# Altium footprint library MEGA2560_Rev3e.PcbLib: 29 footprints (part 2 of 2)
Each footprint in its own frame and in the unit in brackets; x right, y up, seen from the top. Pads: shape width x height; smd on the part's side, far side on the other; paste and mask are expansions set on the pad; w line width, h text height; cw(c..) or ccw(c..) is an arc to the next point about the centre after c.
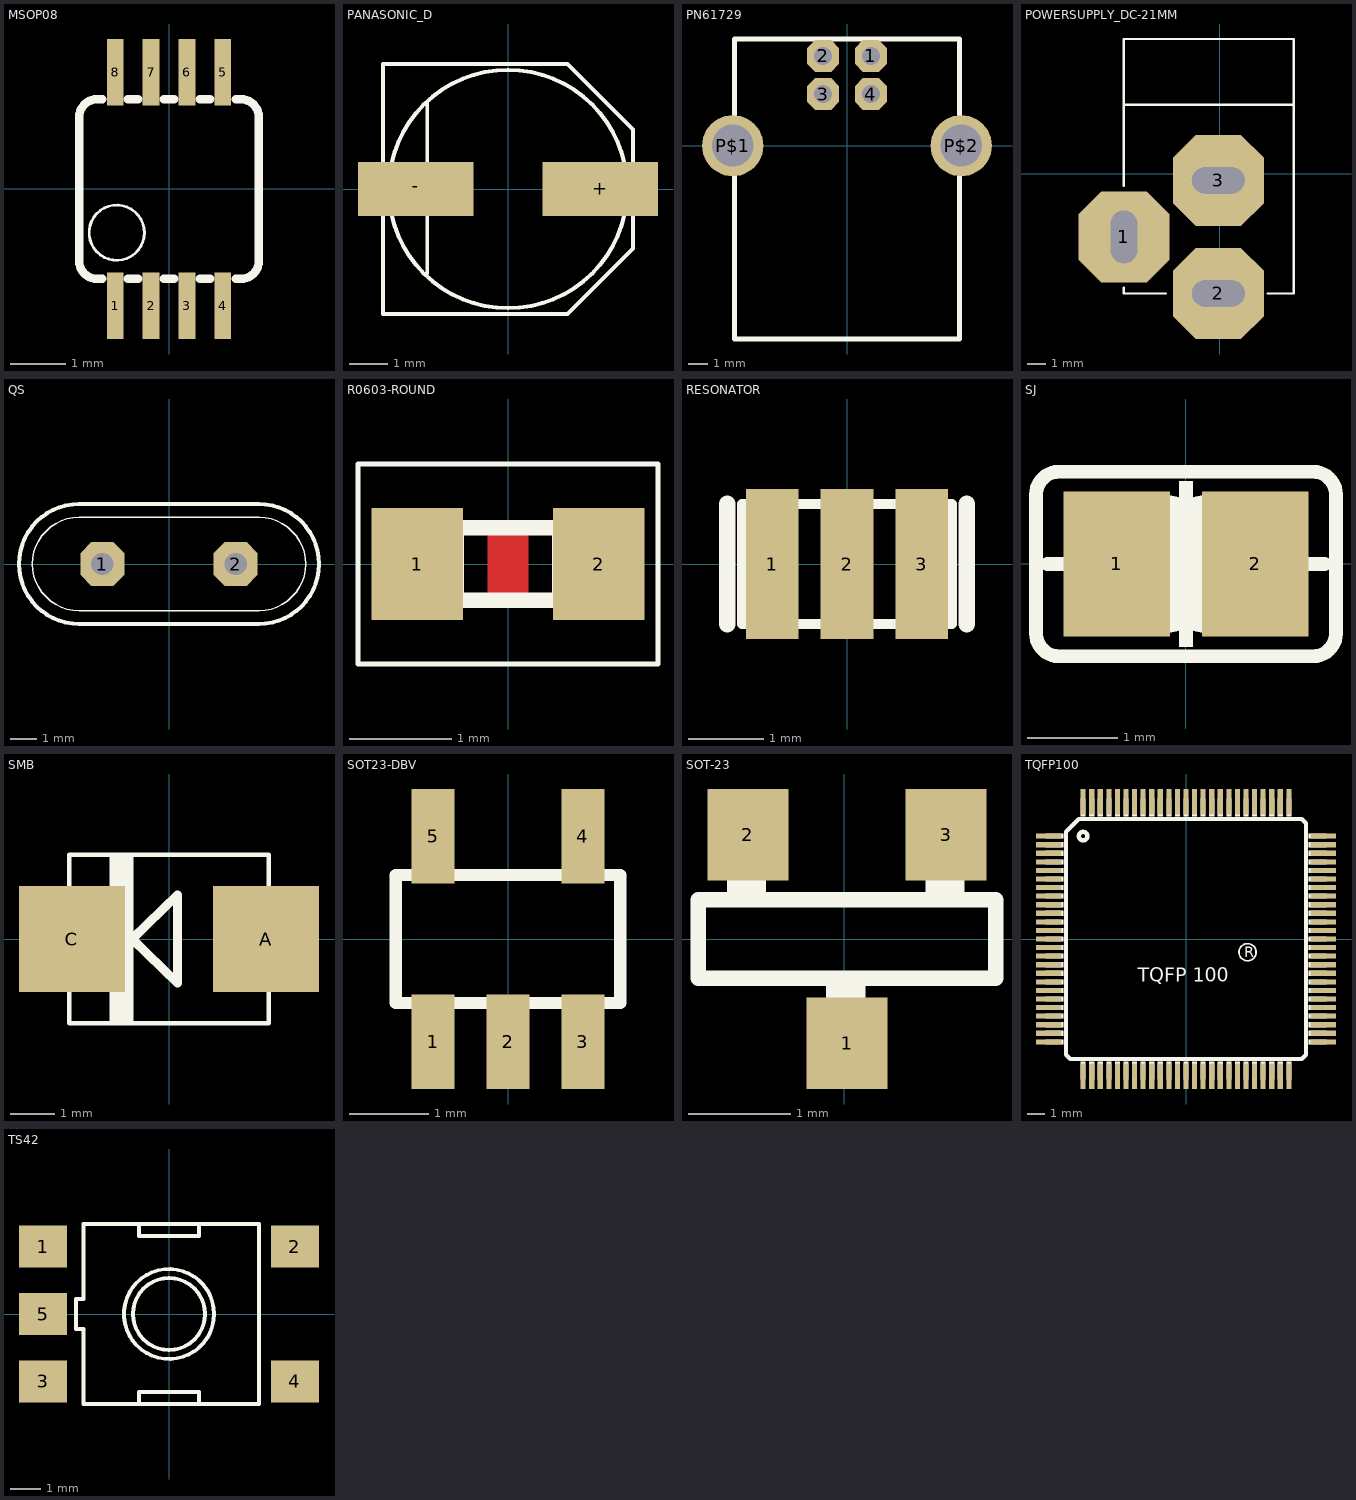
[diagram p1: the footprints below, top view; thin cyan lines are the x and y axes]

## MSOP08 [mm]
pads (8):
  rect 0.3x1.2 smd: 1(-0.976,-2.113) 2(-0.326,-2.113) 3(0.324,-2.113) 4(0.974,-2.113) 5(0.974,2.112) 6(0.324,2.112) 7(-0.326,2.112) 8(-0.976,2.112)
Top Overlay:
  circle w0.051: c-0.946,-0.791 r0.5
  rectangle: 0.853,-2.357 1.096,-1.626
  rectangle: 0.203,-2.357 0.446,-1.625
  rectangle: -0.447,-2.357 -0.204,-1.625
  rectangle: -1.098,-2.357 -0.854,-1.626
  rectangle: 0.853,1.624 1.096,2.356
  rectangle: 0.202,1.624 0.446,2.356
  rectangle: -0.448,1.624 -0.204,2.356
  rectangle: -1.098,1.624 -0.854,2.356
  lines w0.152: -1.341,-1.626 -1.204,-1.626 ; -1.301,-1.626 cw(c-1.301,-1.301) -1.626,-1.301 -1.626,1.299 cw(c-1.301,1.299) -1.301,1.624 -1.204,1.624 ; -0.747,-1.626 -0.554,-1.626 ; -0.747,1.624 -0.554,1.624 ; -0.097,-1.626 0.096,-1.626 ; -0.097,1.624 0.096,1.624 ; 0.553,-1.626 0.746,-1.626 ; 0.553,1.624 0.746,1.624 ; 1.203,-1.626 1.299,-1.626 ccw(c1.299,-1.301) 1.624,-1.301 1.624,1.299 ccw(c1.299,1.299) 1.299,1.624 1.203,1.624

## PANASONIC_D [mm]
pads (2):
  rect 3x1.4 smd: +(2.4,0) -(-2.4,0)
Top Overlay:
  circle w0.102: c0,0 r3.1
  rectangle: -3.65,-0.35 -3.05,0.35
  rectangle: 3.05,-0.35 3.65,0.35
  lines w0.102: -3.25,-0.95 -3.25,-3.25 ; -3.25,0.95 -3.25,3.25 ; -2.95,-0.95 ccw(c0,0) 2.95,-0.95 ; -2.95,0.95 cw(c0,0) 2.95,0.95 ; -2.1,-2.2 -2.1,2.25 ; 3.25,-0.95 3.25,-1.55 ; 3.25,0.95 3.25,1.55 ; -3.25,-3.25 1.55,-3.25 ; -3.25,-3.25 -3.25,3.25 ; -3.25,-3.25 1.55,-3.25 ; -3.25,3.25 1.55,3.25 ; -3.25,3.25 1.55,3.25 ; 1.55,-3.25 3.25,-1.55 ; 1.55,-3.25 3.25,-1.55 ; 1.55,3.25 3.25,1.55 ; 1.55,3.25 3.25,1.55 ; 3.25,-1.55 3.25,1.55

## PN61729 [mm]
pads (6):
  oct 1.676x1.676 hole 0.95: 1(1.25,4.71) 2(-1.25,4.71) 3(-1.25,2.71) 4(1.25,2.71)
  round 3.216 hole 2.2: P$1(-6,0) P$2(6,0)
Top Overlay:
  lines w0.254: -5.9,-10.15 5.9,-10.15 ; -5.9,-10.15 -5.9,5.6 ; -5.9,-10.15 5.9,-10.15 ; -5.9,-10.15 -5.9,5.6 ; -5.9,5.6 5.9,5.6 ; -5.9,5.6 5.9,5.6 ; 5.9,-10.15 5.9,5.6 ; 5.9,-10.15 5.9,5.6

## POWERSUPPLY_DC-21MM [mil]
pads (3):
  oct 190x190 hole 55.12 slot 110.24 at 90 deg: 1(-200,-132)
  oct 190x190 hole 55.12 slot 110.24 at 0 deg: 2(-3,-250) 3(-3,-14)
Top Overlay:
  lines w5: -200,-237.5 -200,-250 -112.5,-250 ; -200,-25 -200,281 154,281 154,144 ; -199,144 154,144 ; 100,-250 154,-250 154,144

## QS [mil]
pads (2):
  oct 66x66 hole 33.46: 1(-100,0) 2(100,0)
Top Overlay:
  lines w2: -135,-70 cw(c-135,0) -135,70 135,70 cw(c135,0) 135,-70 -135,-70
  lines w6: -135,-90 cw(c-135,0) -135,90 135,90 cw(c135,0) 135,-90 -135,-90

## R0603-ROUND [mm]
pads (2):
  rect 0.898x1.1 smd: 1(-0.889,0) 2(0.889,0)
Top Layer:
  rectangle: -0.2,-0.4 0.2,0.4
Top Overlay:
  rectangle: -0.838,-0.432 -0.432,0.432
  rectangle: 0.432,-0.432 0.838,0.432
  lines w0.051: -1.473,-0.983 -1.473,0.983 1.473,0.983 1.473,-0.983 -1.473,-0.983
  lines w0.152: -0.432,-0.356 0.432,-0.356 ; -0.432,0.356 0.432,0.356

## RESONATOR [mm]
pads (3):
  rect 0.7x2 smd: 1(-1,0) 2(0,0) 3(1,0)
Top Overlay:
  lines w0.127: -1.4,-0.8 1.4,-0.8 1.4,0.8 -1.4,0.8 -1.4,-0.8
  lines w0.22: -1.6,-0.8 -1.6,0.8 ; 1.6,-0.8 1.6,0.8

## SJ [mil]
pads (2):
  rect 46x63 smd: 1(-30,0) 2(30,0)
Top Overlay:
  rectangle: -3,-36 3,36
  lines w6: -60,0 -40,0 ; 40,0 60,0 ; -65,-30 ccw(c-55,-30) -55,-40 55,-40 ccw(c55,-30) 65,-30 65,30 ccw(c55,30) 55,40 -55,40 ccw(c-55,30) -65,30 -65,-30
  lines w50: -10,-5 cw(c-10,0) -10,5 ; 10,-5 ccw(c10,0) 10,5

## SMB [mm]
pads (2):
  rect 2.4x2.4 smd: A(2.2,0) C(-2.2,0)
Top Overlay:
  rectangle: -1.35,-1.9 -0.8,1.9
  rectangle: 2.261,-1.092 2.794,1.092
  rectangle: -2.794,-1.092 -2.261,1.092
  lines w0.102: -2.261,-1.905 -2.261,1.905 2.261,1.905 2.261,-1.905 -2.261,-1.905
  lines w0.203: -0.83,0 0.193,-1 0.193,1 -0.83,0

## SOT23-DBV [mm]
pads (5):
  rect 0.55x1.2 smd: 1(-0.95,-1.3) 2(0,-1.3) 3(0.95,-1.3) 4(0.95,1.3) 5(-0.95,1.3)
Top Overlay:
  rectangle: -1.2,-1.5 -0.7,-0.85
  rectangle: -0.25,-1.5 0.25,-0.85
  rectangle: 0.7,-1.5 1.2,-0.85
  rectangle: 0.7,0.85 1.2,1.5
  rectangle: -1.2,0.85 -0.7,1.5
  lines w0.152: -1.328,-0.81 -1.422,-0.81 ; -1.328,0.81 -1.422,0.81 ; -0.522,-0.81 -0.428,-0.81 ; -0.522,0.81 0.522,0.81 ; 0.428,-0.81 0.522,-0.81 ; 1.328,-0.81 1.422,-0.81 ; 1.328,0.81 1.422,0.81 ; -1.422,-0.81 1.422,-0.81 ; -1.422,-0.81 -1.422,0.81 ; -1.422,0.81 1.422,0.81 ; 1.422,-0.81 1.422,0.81

## SOT-23 [mil]
pads (3):
  rect 31x35 smd: 1(1,-40) 2(-37,40) 3(39,40)
Top Overlay:
  rectangle: 31,17 46,37
  rectangle: -45,17 -30,37
  rectangle: -7,-37 8,-17
  lines w6: -56,-15 58,-15 58,15 -56,15 -56,-15

## TQFP100 [mm]
pads (100):
  rect 1.5x0.3 smd: 1(-8,6) 2(-8,5.5) 3(-8,5) 4(-8,4.5) 5(-8,4) 6(-8,3.5) 7(-8,3) 8(-8,2.5) 9(-8,2) 10(-8,1.5) 11(-8,1) 12(-8,0.5) 13(-8,0) 14(-8,-0.5) 15(-8,-1) 16(-8,-1.5) 17(-8,-2) 18(-8,-2.5) 19(-8,-3) 20(-8,-3.5) 21(-8,-4) 22(-8,-4.5) 23(-8,-5) 24(-8,-5.5) 25(-8,-6) 51(8,-6) 52(8,-5.5) 53(8,-5) 54(8,-4.5) 55(8,-4) 56(8,-3.5) 57(8,-3) 58(8,-2.5) 59(8,-2) 60(8,-1.5) 61(8,-1) 62(8,-0.5) 63(8,0) 64(8,0.5) 65(8,1) 66(8,1.5) 67(8,2) 68(8,2.5) 69(8,3) 70(8,3.5) 71(8,4) 72(8,4.5) 73(8,5) 74(8,5.5) 75(8,6)
  rect 0.3x1.5 smd: 26(-6,-8) 27(-5.5,-8) 28(-5,-8) 29(-4.5,-8) 30(-4,-8) 31(-3.5,-8) 32(-3,-8) 33(-2.5,-8) 34(-2,-8) 35(-1.5,-8) 36(-1,-8) 37(-0.5,-8) 38(0,-8) 39(0.5,-8) 40(1,-8) 41(1.5,-8) 42(2,-8) 43(2.5,-8) 44(3,-8) 45(3.5,-8) 46(4,-8) 47(4.5,-8) 48(5,-8) 49(5.5,-8) 50(6,-8) 76(6,8) 77(5.5,8) 78(5,8) 79(4.5,8) 80(4,8) 81(3.5,8) 82(3,8) 83(2.5,8) 84(2,8) 85(1.5,8) 86(1,8) 87(0.5,8) 88(0,8) 89(-0.5,8) 90(-1,8) 91(-1.5,8) 92(-2,8) 93(-2.5,8) 94(-3,8) 95(-3.5,8) 96(-4,8) 97(-4.5,8) 98(-5,8) 99(-5.5,8) 100(-6,8)
Top Overlay:
  circle w0.102: c3.59,-0.77 r0.5
  circle w0.254: c-6,6 r0.25
  rectangle: -6.15,7.15 -5.85,8.2
  rectangle: -5.65,7.15 -5.35,8.2
  rectangle: -5.15,7.15 -4.85,8.2
  rectangle: -4.65,7.15 -4.35,8.2
  rectangle: -4.15,7.15 -3.85,8.2
  rectangle: -3.65,7.15 -3.35,8.2
  rectangle: -3.15,7.15 -2.85,8.2
  rectangle: -2.65,7.15 -2.35,8.2
  rectangle: -2.15,7.15 -1.85,8.2
  rectangle: -1.65,7.15 -1.35,8.2
  rectangle: -1.15,7.15 -0.85,8.2
  rectangle: -0.65,7.15 -0.35,8.2
  rectangle: -0.15,7.15 0.15,8.2
  rectangle: 0.35,7.15 0.65,8.2
  rectangle: 0.85,7.15 1.15,8.2
  rectangle: 1.35,7.15 1.65,8.2
  rectangle: 1.85,7.15 2.15,8.2
  rectangle: 2.35,7.15 2.65,8.2
  rectangle: 2.85,7.15 3.15,8.2
  rectangle: 3.35,7.15 3.65,8.2
  rectangle: 3.85,7.15 4.15,8.2
  rectangle: 4.35,7.15 4.65,8.2
  rectangle: 4.85,7.15 5.15,8.2
  rectangle: 5.35,7.15 5.65,8.2
  rectangle: 5.85,7.15 6.15,8.2
  rectangle: 7.15,5.85 8.2,6.15
  rectangle: 7.15,5.35 8.2,5.65
  rectangle: 7.15,4.85 8.2,5.15
  rectangle: 7.15,4.35 8.2,4.65
  rectangle: 7.15,3.85 8.2,4.15
  rectangle: 7.15,3.35 8.2,3.65
  rectangle: 7.15,2.85 8.2,3.15
  rectangle: 7.15,2.35 8.2,2.65
  rectangle: 7.15,1.85 8.2,2.15
  rectangle: 7.15,1.35 8.2,1.65
  rectangle: 7.15,0.85 8.2,1.15
  rectangle: 7.15,0.35 8.2,0.65
  rectangle: 7.15,-0.15 8.2,0.15
  rectangle: 7.15,-0.65 8.2,-0.35
  rectangle: 7.15,-1.15 8.2,-0.85
  rectangle: 7.15,-1.65 8.2,-1.35
  rectangle: 7.15,-2.15 8.2,-1.85
  rectangle: 7.15,-2.65 8.2,-2.35
  rectangle: 7.15,-3.15 8.2,-2.85
  rectangle: 7.15,-3.65 8.2,-3.35
  rectangle: 7.15,-4.15 8.2,-3.85
  rectangle: 7.15,-4.65 8.2,-4.35
  rectangle: 7.15,-5.15 8.2,-4.85
  rectangle: 7.15,-5.65 8.2,-5.35
  rectangle: 7.15,-6.15 8.2,-5.85
  rectangle: 5.85,-8.2 6.15,-7.15
  rectangle: 5.35,-8.2 5.65,-7.15
  rectangle: 4.85,-8.2 5.15,-7.15
  rectangle: 4.35,-8.2 4.65,-7.15
  rectangle: 3.85,-8.2 4.15,-7.15
  rectangle: 3.35,-8.2 3.65,-7.15
  rectangle: 2.85,-8.2 3.15,-7.15
  rectangle: 2.35,-8.2 2.65,-7.15
  rectangle: 1.85,-8.2 2.15,-7.15
  rectangle: 1.35,-8.2 1.65,-7.15
  rectangle: 0.85,-8.2 1.15,-7.15
  rectangle: 0.35,-8.2 0.65,-7.15
  rectangle: -0.15,-8.2 0.15,-7.15
  rectangle: -0.65,-8.2 -0.35,-7.15
  rectangle: -1.15,-8.2 -0.85,-7.15
  rectangle: -1.65,-8.2 -1.35,-7.15
  rectangle: -2.15,-8.2 -1.85,-7.15
  rectangle: -2.65,-8.2 -2.35,-7.15
  rectangle: -3.15,-8.2 -2.85,-7.15
  rectangle: -3.65,-8.2 -3.35,-7.15
  rectangle: -4.15,-8.2 -3.85,-7.15
  rectangle: -4.65,-8.2 -4.35,-7.15
  rectangle: -5.15,-8.2 -4.85,-7.15
  rectangle: -5.65,-8.2 -5.35,-7.15
  rectangle: -6.15,-8.2 -5.85,-7.15
  rectangle: -8.2,-6.15 -7.15,-5.85
  rectangle: -8.2,-5.65 -7.15,-5.35
  rectangle: -8.2,-5.15 -7.15,-4.85
  rectangle: -8.2,-4.65 -7.15,-4.35
  rectangle: -8.2,-4.15 -7.15,-3.85
  rectangle: -8.2,-3.65 -7.15,-3.35
  rectangle: -8.2,-3.15 -7.15,-2.85
  rectangle: -8.2,-2.65 -7.15,-2.35
  rectangle: -8.2,-2.15 -7.15,-1.85
  rectangle: -8.2,-1.65 -7.15,-1.35
  rectangle: -8.2,-1.15 -7.15,-0.85
  rectangle: -8.2,-0.65 -7.15,-0.35
  rectangle: -8.2,-0.15 -7.15,0.15
  rectangle: -8.2,0.35 -7.15,0.65
  rectangle: -8.2,0.85 -7.15,1.15
  rectangle: -8.2,1.35 -7.15,1.65
  rectangle: -8.2,1.85 -7.15,2.15
  rectangle: -8.2,2.35 -7.15,2.65
  rectangle: -8.2,2.85 -7.15,3.15
  rectangle: -8.2,3.35 -7.15,3.65
  rectangle: -8.2,3.85 -7.15,4.15
  rectangle: -8.2,4.35 -7.15,4.65
  rectangle: -8.2,4.85 -7.15,5.15
  rectangle: -8.2,5.35 -7.15,5.65
  rectangle: -8.2,5.85 -7.15,6.15
  lines w0.254: -7,-6.75 -7,6.25 -6.25,7 6.75,7 7,6.75 7,-6.75 6.75,-7 -6.75,-7 -7,-6.75
  text "R" at 3.39,-1.07 h0.61
  text "TQFP 100" at -2.81,-2.48 h0.81

## TS42 [mm]
pads (5):
  rect 1.6x1.4 smd: 1(-4.2,2.25) 2(4.2,2.25) 3(-4.2,-2.25) 4(4.2,-2.25) 5(-4.2,0)
Top Layer:
  rectangle: -4.699,-0.381 -3.81,0.381
Top Overlay:
  circle w0.127: c0,0 r1.2
  circle w0.127: c0,0 r1.5
  lines w0.127: -1,-3 -2.85,-3 -2.85,-0.5 -3.1,-0.5 -3.1,0.5 -2.85,0.5 -2.85,3 -1,3 ; -1,-3 -1,-2.6 1,-2.6 1,-3 ; -1,-3 1,-3 ; -1,3 -1,2.6 1,2.6 1,3 ; -1,3 1,3 ; 1,-3 3,-3 3,3 1,3